# Altium schematic symbol library Cap THD.SchLib: 2 symbols
Pins are listed as number, name and electrical type; pins without a type are passive.

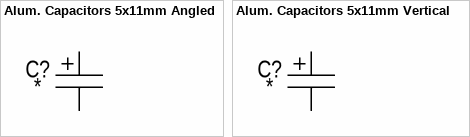
[diagram p0: symbols Alum. Capacitors 5x11mm Angled to Alum. Capacitors 5x11mm Vertical]

## Alum. Capacitors 5x11mm Angled
designator C?, comment Aluminum Electrolytic Capacitors  (value not drawn)
Angled Aluminum Electrolytic Capacitors Mounting Through Hole; Manufacture: Panasonic; Case: 5x10mm, Pad Pitch 2mm; Model: *; ComponentLink1Description: Panasonic Aluminium Capacitor; ComponentLink1URL: https://industrial.panasonic.com/cdbs/www-data/pdf/RDF0000/ABA0000C1255.pdf; Value: *
footprint Angled Cap 5x11mm, Pitch 2mm (Aluminum Electrolytic Capacitors Angled 5x11mm, 2mm Pin Pitch)
pins: 1 + "Positive Electrode", 2 - "Negative Electrode"

## Alum. Capacitors 5x11mm Vertical
designator C?, comment Aluminum Electrolytic Capacitors  (value not drawn)
Vertical Aluminum Electrolytic Capacitors Mounting Through Hole; Case: 5x10mm, Pad Pitch 2mm; Manufacture: *; Model: *; ComponentLink1Description: Panasonic AluminumCapacitors; ComponentLink1URL: https://industrial.panasonic.com/cdbs/www-data/pdf/RDF0000/ABA0000C1255.pdf; Value: *
footprint Cap 5x11mm, Pitch 2mm (Aluminum Electrolytic Capacitors Vertical 5x11mm, 2mm Pin Pitch)
pins: 1 + "Positive Electrode", 2 - "Negative Electrode"